# Altium footprint library MEA1D2412SC.PcbLib: 1 footprints
Each footprint in its own frame and in the unit in brackets; x right, y up, seen from the top. Pads: shape width x height; smd on the part's side, far side on the other; paste and mask are expansions set on the pad; w line width, h text height; cw(c..) or ccw(c..) is an arc to the next point about the centre after c.
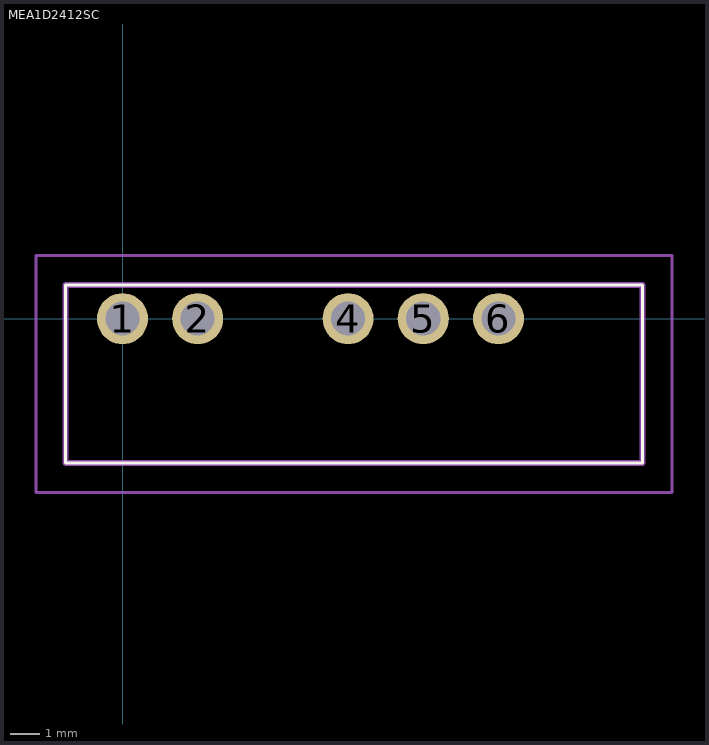
[diagram p0: the footprint, top view; thin cyan lines are the x and y axes]

## MEA1D2412SC [mm]
pads (5):
  round 1.725 hole 1.15: 1(0,0) 2(2.54,0) 4(7.62,0) 5(10.16,0) 6(12.7,0)
Top Overlay:
  lines w0.1: -1.93,-4.87 -1.93,1.13 17.57,1.13 17.57,-4.87 -1.93,-4.87
M5 Assembly Top (Mech13):
  lines w0.2: -1.93,-4.87 -1.93,1.13 17.57,1.13 17.57,-4.87 -1.93,-4.87
Mechanical 15:
  lines w0.1: -2.93,-5.87 -2.93,2.13 18.57,2.13 18.57,-5.87 -2.93,-5.87
3D body "MEA1D2415SC.stp": height 10.35, standoff -5, extent -1.93,-4.87 17.57,1.13